# Altium footprint library Molex.PCBLIB: 1 footprints
Each footprint in its own frame and in the unit in brackets; x right, y up, seen from the top. Pads: shape width x height; smd on the part's side, far side on the other; paste and mask are expansions set on the pad; w line width, h text height; cw(c..) or ccw(c..) is an arc to the next point about the centre after c.
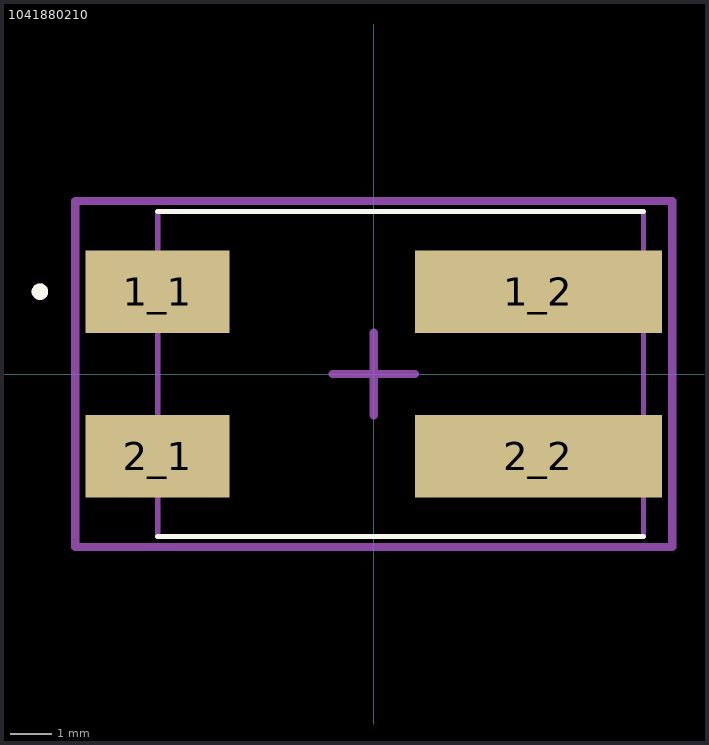
[diagram p0: the footprint, top view; thin cyan lines are the x and y axes]

## 1041880210 [mm]
pads (4):
  rect 3.5x2 smd: 1_1(-5.25,2) 2_1(-5.25,-2)
  rect 6x2 smd: 1_2(4,2) 2_2(4,-2)
Top Overlay:
  circle w0.2: c-8.11,2 r0.1
  lines w0.127: -5.25,-3.95 6.55,-3.95 ; -5.25,3.95 6.55,3.95
Top Assembly:
  circle w0.2: c-8.11,2 r0.1
  lines w0.127: -5.25,-3.95 -5.25,3.95 6.55,3.95 6.55,-3.95 -5.25,-3.95
Top Courtyard:
  lines w0.2: -7.25,-4.2 7.25,-4.2 7.25,4.2 -7.25,4.2 -7.25,-4.2
Top Designator:
  text ".Designator" at -1.64,-0.382 h0.76
Top Component Center:
  lines w0.2: -1,0 1,0 ; 0,-1 0,1
3D body "104188-0210.stp": height 4.25, standoff 0, extent -6.5,-3.95 6.5,3.95